# Altium footprint library PCB - LEADLESS - PQFN - SKYWORKS SKY13414-485LF.PcbLib: 1 footprints
Each footprint in its own frame and in the unit in brackets; x right, y up, seen from the top. Pads: shape width x height; smd on the part's side, far side on the other; paste and mask are expansions set on the pad; w line width, h text height; cw(c..) or ccw(c..) is an arc to the next point about the centre after c.
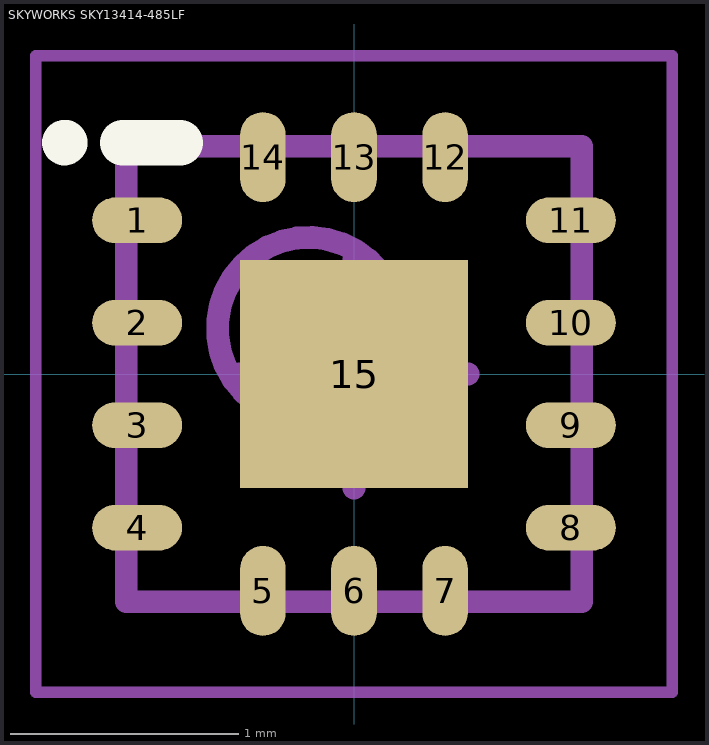
[diagram p0: the footprint, top view; thin cyan lines are the x and y axes]

## SKYWORKS SKY13414-485LF [mm] "PQFN, 14-Leads, Body 2.00x2.00mm, Pitch 0.40mm/0.45mm, Thermal Pad 1.00x1.00mm"
height 0.6
pads (15):
  oval 0.395x0.2 smd: 1(-0.953,0.675) 2(-0.953,0.225) 3(-0.953,-0.225) 4(-0.953,-0.675) 8(0.953,-0.675) 9(0.953,-0.225) 10(0.953,0.225) 11(0.953,0.675)
  oval 0.2x0.395 smd: 5(-0.4,-0.953) 6(0,-0.953) 7(0.4,-0.953) 12(0.4,0.953) 13(0,0.953) 14(-0.4,0.953)
  rect 1x1 smd: 15(0,0)
Top Overlay:
  circle w0.1: c-1.27,1.016 r0.05
  lines w0.2: -1.016,1.016 -0.762,1.016
Mechanical 13:
  circle w0.1: c-0.2,0.2 r0.4
  lines w0.1: -1,-1 -1,1 1,1 1,-1 -1,-1
Mechanical 15:
  lines w0.05: -1.397,-1.397 -1.397,1.397 1.397,1.397 1.397,-1.397 -1.397,-1.397
  lines w0.1: -0.5,0 0.5,0 ; 0,-0.5 0,0.5
3D body "SKYWORKS SKY13414-485LF.step": height 0.6, standoff 0, extent -1,-1 1,1